# Altium schematic symbol library BoomClock.SchLib: 18 symbols
Pins are listed as number, name and electrical type; pins without a type are passive.

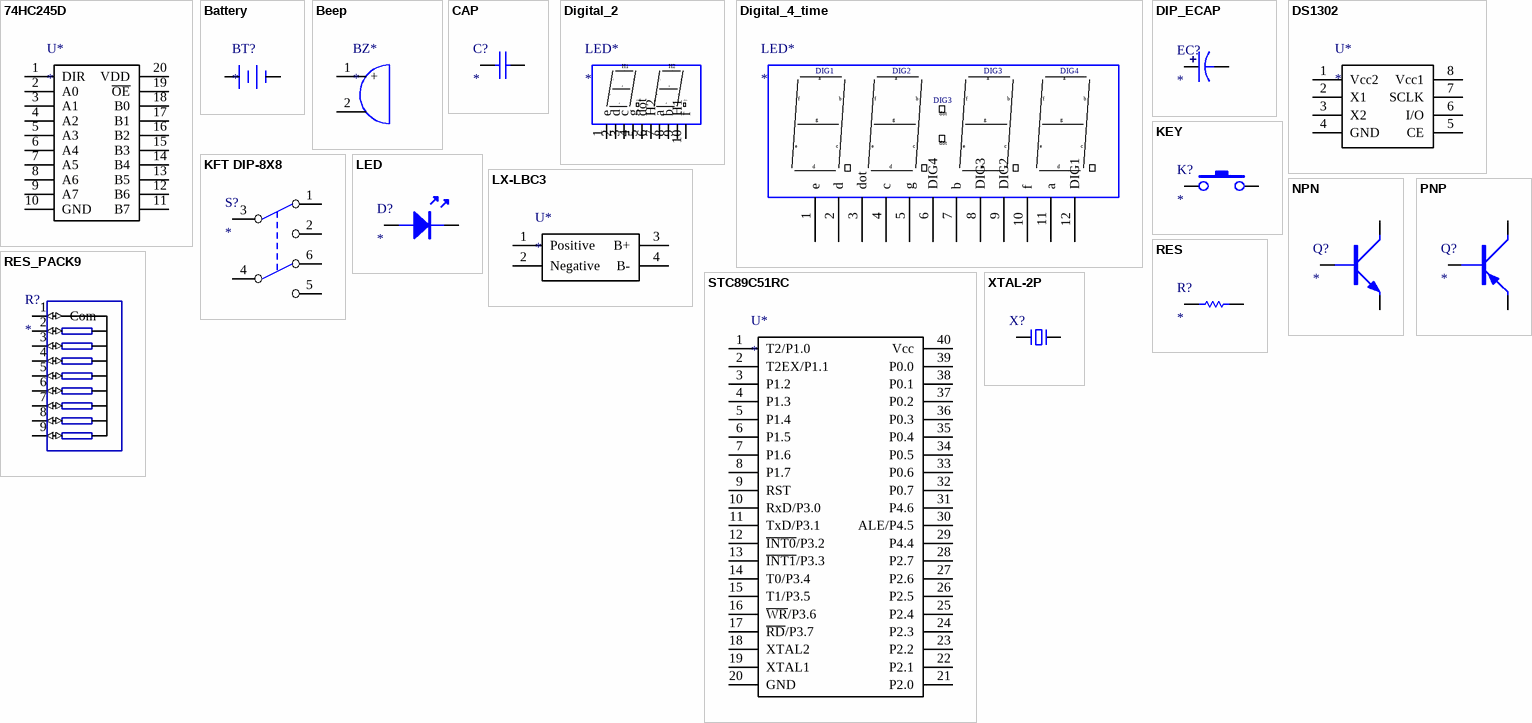
[diagram p0: symbols 74HC245D to XTAL-2P]

## 74HC245D
designator U*
footprint SOP20
footprint DIP20
pins: 1 DIR, 2 A0, 3 A1, 4 A2, 5 A3, 6 A4, 7 A5, 8 A6, 9 A7, 10 GND, 11 B7, 12 B6, 13 B5, 14 B4, 15 B3, 16 B2, 17 B1, 18 B0, 19 ~{OE}, 20 VDD

## Battery
designator BT?
电池
footprint Battery_18650
footprint Battery_CR2032
pins: 1 Positive, 2 Negative

## Beep
designator BZ*
蜂鸣器
footprint Beep
pins: 1, 2
text: +

## CAP
designator C?
无极性电容
footprint 0201C
footprint 0402C
footprint 0603C
footprint 0805C
footprint 1206C
footprint 1210C
footprint 1808C
footprint 1812C
footprint 1825C
footprint 2225C
footprint RAD-0.2
footprint RAD-0.3
footprint DIP-7
footprint DIP-X2-10mm
footprint RAD-0.4
footprint RAD-0.1
pins: 1, 2

## Digital_2
designator LED*
二位数码管
footprint Digital_2
pins: 1 e, 2 d, 3 c, 4 g, 5 dot, 6 H2, 7 a, 8 b, 9 H1, 10 f

## Digital_4_time
designator LED*
四位时间数码管
footprint Digital_4_time
pins: 1 e, 2 d, 3 dot, 4 c, 5 g, 6 DIG4, 7 b, 8 DIG3, 9 DIG2, 10 f, 11 a, 12 DIG1

## DIP_ECAP
designator EC?
直插电解电容
footprint DIP-EC1.5X4X8
footprint DIP-EC1.5X4X8-A
footprint DIP-EC2.0X5X11
footprint DIP-EC2.0X5X11-A
footprint DIP-EC2.5X5X11
footprint DIP-EC2.5X5X11-A
footprint DIP-EC2.5X6.3X11.2-A
footprint DIP-EC2.5X6.3X11.2
footprint DIP-EC3.5X8X11.5
footprint DIP-EC3.5X8X11.5-A
footprint DIP-EC5.0X10X12.5
footprint DIP-EC5.0X10X12.5-A
footprint DIP-EC5.0X10X16
footprint DIP-EC5.0X10X16-A
footprint DIP-EC5.0X10X20
footprint DIP-EC5.0X10X20-A
footprint DIP-EC5.0X12.5X20
footprint DIP-EC5.0X12.5X20-A
footprint DIP-EC5.0X12.5X25
footprint DIP-EC5.0X12.5X25-A
footprint DIP-EC5X11
footprint DIP-EC6.3X11
footprint DIP-EC7.5X16X25
footprint DIP-EC7.5X16X25-A
footprint DIP-EC7.5X16X31.5
footprint DIP-EC7.5X16X31.5-A
footprint DIP-EC7.5X18X35.5
footprint DIP-EC7.5X18X35.5-A
footprint DIP-EC8X12
footprint DIP-EC10X17
footprint DIP-EC10X22X31.5
footprint DIP-EC10X22X40
pins: 1, 2

## DS1302
designator U*
footprint DIP8
footprint SOP8
pins: 1 Vcc2, 2 X1, 3 X2, 4 GND, 5 CE, 6 I/O, 7 SCLK, 8 Vcc1

## KEY
designator K?
按动开关
footprint DIP-3X6X4.3
footprint DIP-3X6X4.3_C
footprint DIP-3X6X5
footprint DIP-3X6X5_C
footprint DIP-6X6X4.3
footprint DIP-6X6X4.3_C
footprint DIP-6X6X5
footprint DIP-6X6X5_C
footprint DIP-6X6X5_C
footprint DIP-6X6X6
footprint DIP-6X6X6_C
footprint DIP-6X6X7
footprint DIP-6X6X7_C
footprint DIP-6X6X8
footprint DIP-6X6X8_C
footprint DIP-6X6X9
footprint DIP-6X6X9_C
footprint DIP-6X6X10
footprint DIP-6X6X10_C
footprint DIP-6X6X11
footprint DIP-6X6X11_C
footprint DIP-6X6X12
footprint DIP-6X6X12_C
footprint DIP-6X6X13
footprint DIP-6X6X14 (6*6*14mm)
footprint DIP-6X6X15
footprint DIP-12X12X4.3
footprint DIP-12X12X5
footprint DIP-12X12X6
footprint DIP-12X12X8
footprint DIP-12X12X9
footprint DIP-12X12X10
footprint DIP-12X12X11
footprint DIP-12X12X12
footprint DIP-12X12X13
footprint SMD-3X6X2.5
footprint SMD-3X6X4.3
footprint SMD-3X6X5
footprint SMD-4X4X1.5
footprint SMD-6X6X4.3
footprint SMD-6X6X5
footprint SMD-6X6X6
footprint SMD-6X6X7
footprint SMD-6X6X8
footprint SMD-6X6X9
footprint SMD-6X6X10
footprint SMD-6X6X11
footprint SMD-6X6X12
footprint SMD-6X6X13 (6*6*13mm)
footprint SMD-6X6X14
footprint SMD-6X6X15
footprint SMD-12X12X4.3
footprint SMD-12X12X5
footprint SMD-12X12X6
footprint SMD-12X12X7
footprint SMD-12X12X8 (12*12*8mm)
footprint SMD-12X12X9
footprint SMD-12X12X10
footprint SMD-12X12X11
footprint SMD-12X12X12 (12*12*12mm)
footprint SMD-12X12X13
footprint SMD-SW2X4
footprint SMD-3X4X2,5
footprint SW-SMD_L4.0-W2.9-P4.15-EH
footprint SMD-3.5x7.8x2.5_C; pin to pad 1>3 2>4
pins: 1, 2

## KFT DIP-8X8
designator S?
footprint KFT DIP-8X8
pins: 1, 2, 3, 4, 5, 6

## LED
designator D?
footprint LED5-BLUE
footprint LED5-GRE
footprint LED5-RED
footprint LED5-YEL
footprint LED3-BLUE
footprint LED3-GRE
footprint LED3-RED
footprint LED3-YEL
footprint 1WLED
footprint LED-0603B
footprint LED-0603G
footprint LED-0805R
footprint LED-0603W
footprint LED-0603Y
footprint LED-0805B
footprint LED-0805G
footprint LED-0805R
footprint LED-0603W
footprint LED-0805Y
footprint LED-1206B
footprint LED-1206G
footprint LED-1206R
footprint LED-1206W
footprint LED-1206Y
footprint LED-0602-RD; pin to pad A>1 K>2
pins: A, K

## LX-LBC3
designator U*
电源模块
footprint LX-LBC3
pins: 1 Positive, 2 Negative, 3 B+, 4 B-

## NPN
designator Q?
NPN三极管
footprint SOT-23
footprint TO126 (126晶体管)
footprint TO220A (220，3脚晶体管)
footprint TO220B (220，3脚晶体管)
footprint TO-92A
footprint TO-92B
pins: B, C, E
1 alternate drawing of the same symbol

## PNP
designator Q?
PNP三极管
footprint SOT-23
footprint TO126 (126晶体管)
footprint TO220A (220，3脚晶体管)
footprint TO220B (220，3脚晶体管)
footprint TO-92A
footprint TO-92B
pins: B, C, E

## RES
designator R?
电阻
footprint 0201R
footprint 0402R
footprint 0603R
footprint 0805R
footprint 1206R
footprint 1812R
footprint 2010R
footprint 2512R
footprint AXIAL0.3
footprint AXIAL0.4 (1/4W/1/2W)
footprint AXIAL0.5 (1/2W/1W)
footprint AXIAL0.6 (Variable Resistor; 2 Leads)
footprint AXIAL0.7 (Variable Resistor; 2 Leads)
footprint AXIAL0.9 (Magnetic-Core Inductor; 2 Leads)
footprint AXIAL0.8 (Adjustable Inductor; 2 Leads)
footprint AXIAL1.0 (Adjustable Magnetic-Core Inductor; 2 Leads)
footprint LONG
pins: 1, 2

## RES_PACK9
designator R?
排阻
footprint A09R
pins: 1 Com (io), 2 (io), 3 (io), 4 (io), 5 (io), 6 (io), 7 (io), 8 (io), 9 (io)

## STC89C51RC
designator U*
footprint DIP40
pins: 1 T2/P1.0, 2 T2EX/P1.1, 3 P1.2, 4 P1.3, 5 P1.4, 6 P1.5, 7 P1.6, 8 P1.7, 9 RST, 10 RxD/P3.0, 11 TxD/P3.1, 12 ~{INT0}/P3.2, 13 ~{INT1}/P3.3, 14 T0/P3.4, 15 T1/P3.5, 16 ~{WR}/P3.6, 17 ~{RD}/P3.7, 18 XTAL2, 19 XTAL1, 20 GND, 21 P2.0, 22 P2.1, 23 P2.2, 24 P2.3, 25 P2.4, 26 P2.5, 27 P2.6, 28 P2.7, 29 P4.4, 30 ALE/P4.5, 31 P4.6, 32 P0.7, 33 P0.6, 34 P0.5, 35 P0.4, 36 P0.3, 37 P0.2, 38 P0.1, 39 P0.0, 40 Vcc

## XTAL-2P
designator X?
2脚无源脚晶振
footprint OSC HC-49S
footprint OSC 455E-LI (3.6mm*7mm*9mm(长*宽*高)  脚距5mm)
footprint OSC 455E-WI (3.6mm*7mm*9mm(长*宽*高)  脚距5mm)
footprint OSC 3215-2P (3.2*1.5*0.6mm(长宽高))
footprint OSC 5032-2P (5mm*3.2mm*0.8mm(长*宽*高))
footprint OSC 6035-2P (6mm*3.5mm*1mm(长*宽*高))
footprint OSC 7050-2P (7mm*5mm*1.3mm(长*宽*高))
footprint OSC 8045-2P (8mm*4.5mm*1.8mm(长*宽*高))
footprint OSC-2x6-LI (脚距：1.6mm)
footprint OSC-2x6-WI-A (脚距：1.6mm)
footprint OSC-2x6-WI-B (脚距：1.6mm)
footprint OSC-2x6-WS (脚距：1.6mm)
footprint OSC-3x8-LI (脚距：2mm)
footprint OSC-3x8-WI-A (脚距：2mm)
footprint OSC-3x8-WI-B (脚距：2mm)
footprint OSC-3x8-WS (脚距：2mm)
footprint OSC-3x10-LI (脚距：2mm)
footprint OSC-3x10-WI-A (脚距：2mm)
footprint OSC-3x10-WI-B (脚距：2mm)
footprint OSC-3x10-WS (脚距：2mm)
footprint OSC HC-49SMD
footprint OSC HC-49U
footprint OSC UM-1
footprint OSC UM-5
pins: 1, 2